# EAGLE library part 651305142821 (library Wurth_Elektronik_Electromechanic_Input-Output_Connectors_rev16a)
WR-COM Horizontal 5 Contacts Mini USB Type AB=>Code : Con_I-O_COM_MiniUSB_651305142821 <http://katalog.we-online.de/media/images/eican/Con_I-O_COM_MiniUSB_651305142821_pf2.jpg> Details see: http://katalog.we-online.de/en/em/651_305_142_821 Created 2014-07-09, Karrer Zheng 2014 (C) Würth Elektronik
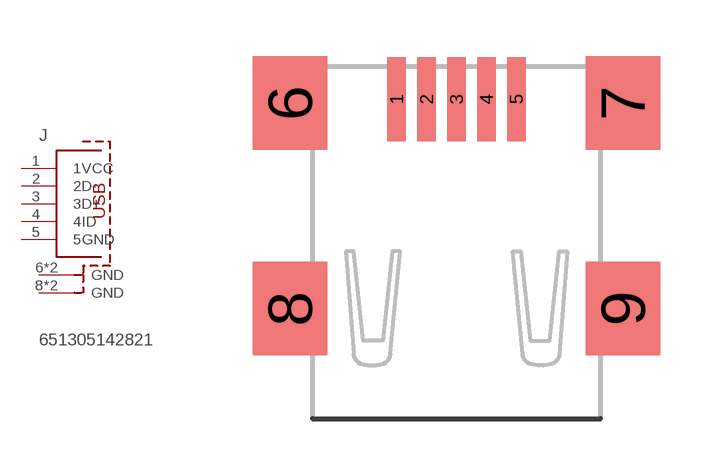
[diagram p73: symbol with the pads of 651305142821; footprint 651305142821]

Designator prefix J

## 651305142821  [651305142821]
1  1VCC  pas
2  2D-  pas
3  3D+  pas
4  4ID  pas
5  5GND  pas
6  GND
7  GND
8  GND
9  GND

## Footprint 651305142821 (pad centres in mm)
WR-COM Horizontal 5 Contacts Mini USB Type AB
smd 0.5 x 2.25: 1 -1.6,0.1; 2 -0.8,0.1; 3 0,0.1; 4 0.8,0.1; 5 1.6,0.1
smd 2 x 2.5: 6 -4.45,0; 7 4.45,0; 8 -4.45,-5.5; 9 4.45,-5.5